# EAGLE library part J350D-12P-L (library jfa)
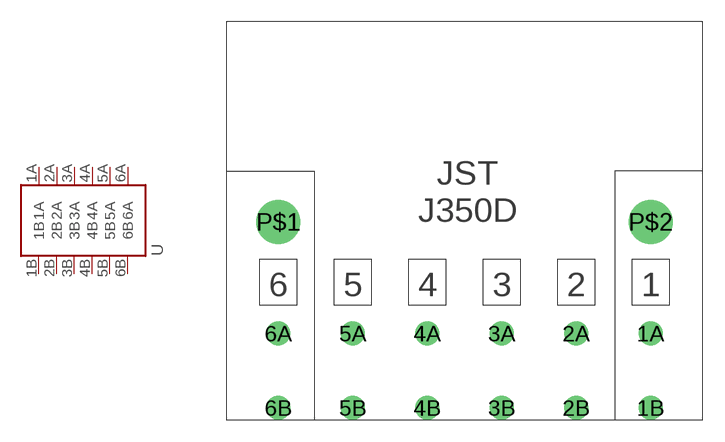
[diagram p0: symbol with the pads of J350D-12P-L; footprint J350D-12P-L]

Designator prefix -

## J350D-12P-L  [J350D-12P-L]
1A  1A
1B  1B
2A  2A
2B  2B
3A  3A
3B  3B
4A  4A
4B  4B
5A  5A
5B  5B
6A  6A
6B  6B

## Footprint J350D-12P-L (pad centres in mm)
drill 1.1: 1A 12.7,5.08; 1B 12.7,0; 2A 7.62,5.08; 2B 7.62,0; 3A 2.54,5.08; 3B 2.54,0; 4A -2.54,5.08; 4B -2.54,0; 5A -7.62,5.08; 5B -7.62,0; 6A -12.7,5.08; 6B -12.7,0
drill 2 pad 3: P$1 -12.7,12.7; P$2 12.7,12.7